# Altium schematic symbol library DS1307.SchLib: 1 symbol
Pins are listed as number, name and electrical type; pins without a type are passive.

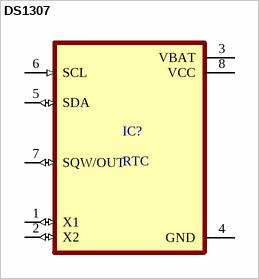
[diagram p0: symbol DS1307]

## DS1307
designator IC?, comment RTC
MP: DS1307+; MF: {'manufacturer': u'Maxim Integrated'}; Availability: Unavailable; Value: *; Price: None; Package: DIP8
footprint DIP794W47P254L991H457Q8
pins: 1 X1 (io), 2 X2 (io), 3 VBAT (power), 4 GND (power), 5 SDA (io), 6 SCL (in), 7 SQW/OUT (io), 8 VCC (power)